# Altium footprint library PCB2.PcbLib: 13 footprints
Each footprint in its own frame and in the unit in brackets; x right, y up, seen from the top. Pads: shape width x height; smd on the part's side, far side on the other; paste and mask are expansions set on the pad; w line width, h text height; cw(c..) or ccw(c..) is an arc to the next point about the centre after c.
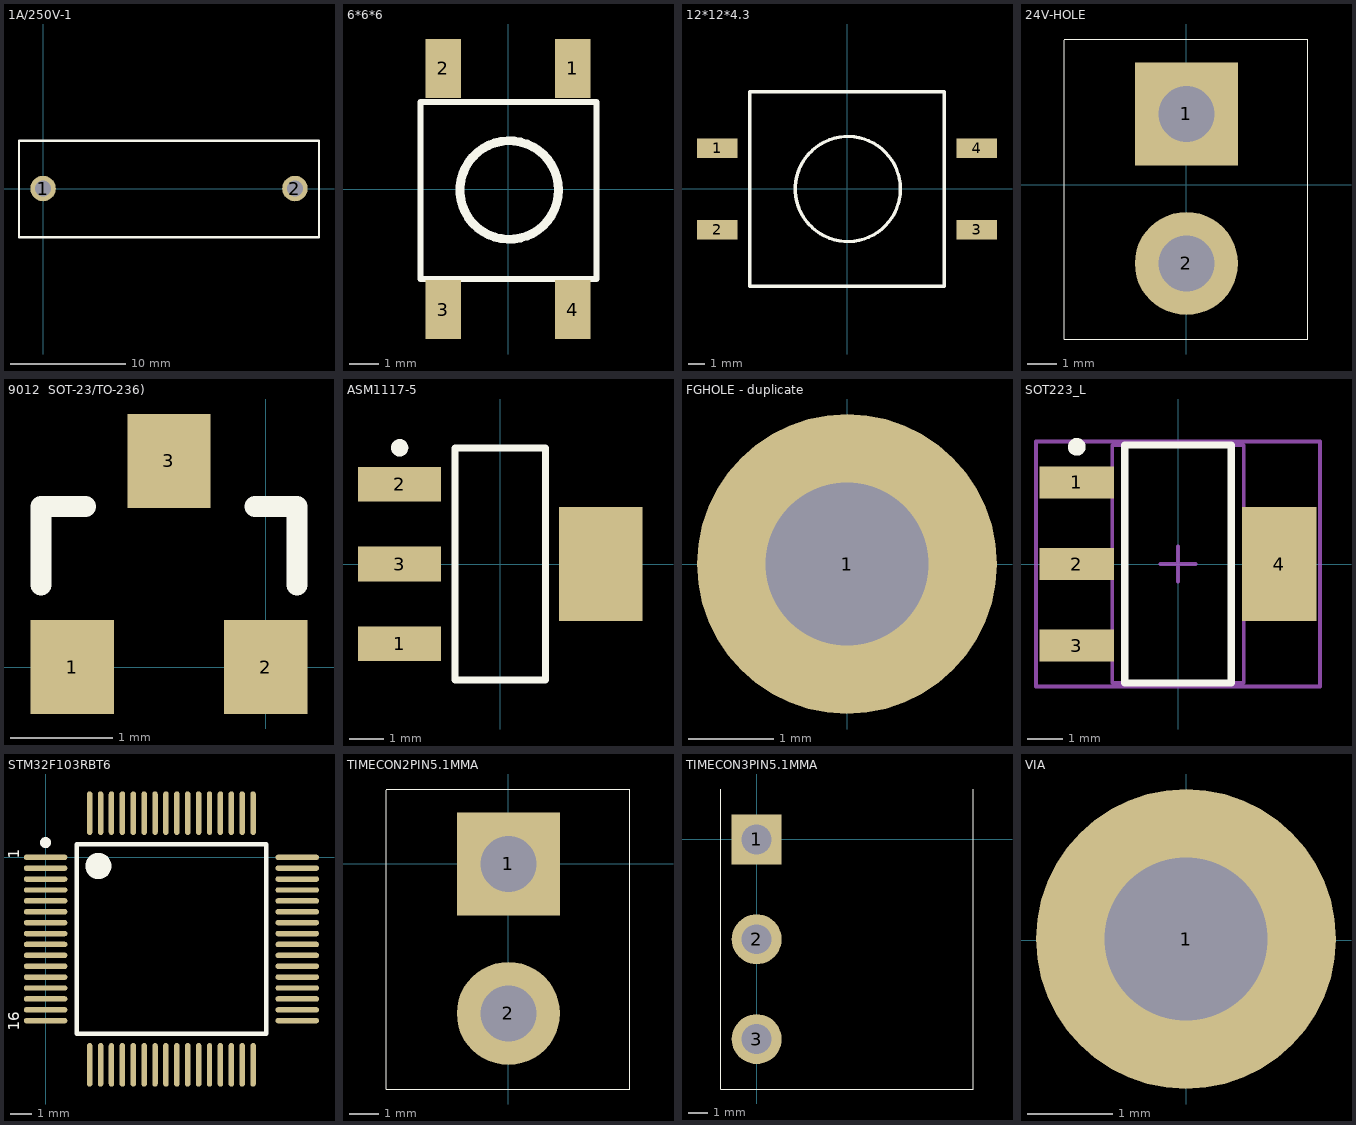
[diagram p0: the footprints below, top view; thin cyan lines are the x and y axes]

## 1A/250V-1 [mil]
pads (2):
  round 87 hole 55: 1(0,0) 2(858,0)
Top Overlay:
  lines w8: -82,-166 940,-166 940,163 -82,163 -82,-166

## 6*6*6 [mm]
pads (4):
  rect 1.2x2 smd: 1(2.2,4.1) 2(-2.2,4.1) 3(-2.2,-4.1) 4(2.2,-4.1)
Top Overlay:
  circle w0.3: c0.041,-0.036 r1.674
  lines w0.203: -2.982,-3.059 -2.982,2.961 3.013,2.961 3.013,-3.059 -2.982,-3.059

## 12*12*4.3 [mm]
pads (4):
  rect 2.5x1.2 smd: 1(-8,2.5) 2(-8,-2.5) 3(8,-2.5) 4(8,2.5)
Top Overlay:
  circle w0.203: c0.051,0 r3.24
  lines w0.2: -5.425,6 5.436,6 6,6 6,-6 ; -5.359,6 -6.014,6 -6,5.986 -6,5.715 -6,-6 5.994,-6

## 24V-HOLE [mm]
pads (2):
  rect 3.5x3.5 hole 1.9: 1(0,2.413)
  round 3.5 hole 1.9: 2(0,-2.667)
Top Overlay:
  lines w0.025: -4.14,4.902 -4.14,-5.232 4.115,-5.232 4.115,4.953 -4.14,4.953

## 9012  SOT-23/TO-236) [mil]
pads (3):
  rect 32x36 smd: 1(-74,0) 2(0,0) 3(-37,79)
Top Overlay:
  lines w8: -86,31.52 -86,61.52 -69,61.52 ; -4,61.52 12,61.52 12,31.52

## ASM1117-5 [mm] "SOT223, 4-Leads, Body 6.7x7.3mm (max), Pitch 2.30mm, IPC Medium Density"
height 1.8
pads (4):
  rect 2.4x1 smd: 1(-2.9,-2.3) 2(-2.9,2.3) 3(-2.9,0)
  rect 2.4x3.3 smd: ""(2.9,0)
Top Overlay:
  circle w0.25: c-2.9,3.35 r0.125
  lines w0.203: -1.3,-3.35 1.3,-3.35 1.3,3.35 -1.3,3.35 -1.3,-3.35

## FGHOLE - duplicate [mm]
pads (1):
  round 3.5 hole 1.9: 1(0,0)
Top Overlay:
  circle w0.254: c-0.005,-0.124 r1.469

## PCBComponent_1 - duplicate [mm]

## SOT223_L [mm] "SOT223, 4-Leads, Body 6.5x3.5mm, Pitch 2.3mm, Lead Span 7mm, IPC High Density"
height 1.7
pads (4):
  rect 2.1x0.9 smd: 1(-2.85,2.3) 2(-2.85,0) 3(-2.85,-2.3)
  rect 2.1x3.2 smd: 4(2.85,0)
Top Overlay:
  circle w0.25: c-2.85,3.3 r0.125
  lines w0.2: -1.5,-3.35 -1.5,3.35 1.5,3.35 1.5,-3.35 -1.5,-3.35
Mechanical 13:
  lines w0.1: -1.85,-3.35 -1.85,3.35 1.85,3.35 1.85,-3.35 -1.85,-3.35
Mechanical 15:
  lines w0.1: -0.5,0 0.5,0 ; 0,-0.5 0,0.5 ; -4,-3.45 -4,3.45 4,3.45 4,-3.45 -4,-3.45
3D body: height 1.7, standoff 0, extent -1.85,-3.35 1.85,3.35

## STM32F103RBT6 [mm]
pads (64):
  oval 2x0.25 smd: 1(0,0) 2(0,-0.5) 3(0,-1) 4(0,-1.5) 5(0,-2) 6(0,-2.5) 7(0,-3) 8(0,-3.5) 9(0,-4) 10(0,-4.5) 11(0,-5) 12(0,-5.5) 13(0,-6) 14(0,-6.5) 15(0,-7) 16(0,-7.5) 33(11.55,-7.5) 34(11.55,-7) 35(11.55,-6.5) 36(11.55,-6) 37(11.55,-5.5) 38(11.55,-5) 39(11.55,-4.5) 40(11.55,-4) 41(11.55,-3.5) 42(11.55,-3) 43(11.55,-2.5) 44(11.55,-2) 45(11.55,-1.5) 46(11.55,-1) 47(11.55,-0.5) 48(11.55,0)
  oval 0.25x2 smd: 17(2.025,-9.525) 18(2.525,-9.525) 19(3.025,-9.525) 20(3.525,-9.525) 21(4.025,-9.525) 22(4.525,-9.525) 23(5.025,-9.525) 24(5.525,-9.525) 25(6.025,-9.525) 26(6.525,-9.525) 27(7.025,-9.525) 28(7.525,-9.525) 29(8.025,-9.525) 30(8.525,-9.525) 31(9.025,-9.525) 32(9.525,-9.525) 49(9.525,2.025) 50(9.025,2.025) 51(8.525,2.025) 52(8.025,2.025) 53(7.525,2.025) 54(7.025,2.025) 55(6.525,2.025) 56(6.025,2.025) 57(5.525,2.025) 58(5.025,2.025) 59(4.525,2.025) 60(4.025,2.025) 61(3.525,2.025) 62(3.025,2.025) 63(2.525,2.025) 64(2.025,2.025)
Top Overlay:
  circle w0.25: c0,0.675 r0.125
  circle w0.6: c2.425,-0.4 r0.3
  lines w0.203: 1.425,-8.1 1.425,0.6 10.125,0.6 10.125,-8.1 1.425,-8.1
  text "16" at -1.219,-7.95 h0.51
  text "1" at -1.219,-0.076 h0.51

## TIMECON2PIN5.1MMA [mm]
pads (2):
  rect 3.5x3.5 hole 1.9: 1(0,0)
  round 3.5 hole 1.9: 2(0,-5.08)
Top Overlay:
  lines w0.025: -4.14,2.489 -4.14,-7.645 4.115,-7.645 4.115,2.54 -4.14,2.54

## TIMECON3PIN5.1MMA [mil]
pads (3):
  rect 100x100 hole 60: 1(0,0)
  round 100 hole 60: 2(0,-200) 3(0,-400)
Top Overlay:
  lines w1: -72,101 -72,-500 434,-500 434,101

## VIA [mm]
pads (1):
  round 3.5 hole 1.9: 1(0,0.015)
Top Overlay:
  circle w0.254: c-0.005,0.003 r1.469